# Altium schematic symbol library Belle_library.SchLib: 44 symbols
Pins are listed as number, name and electrical type; pins without a type are passive.

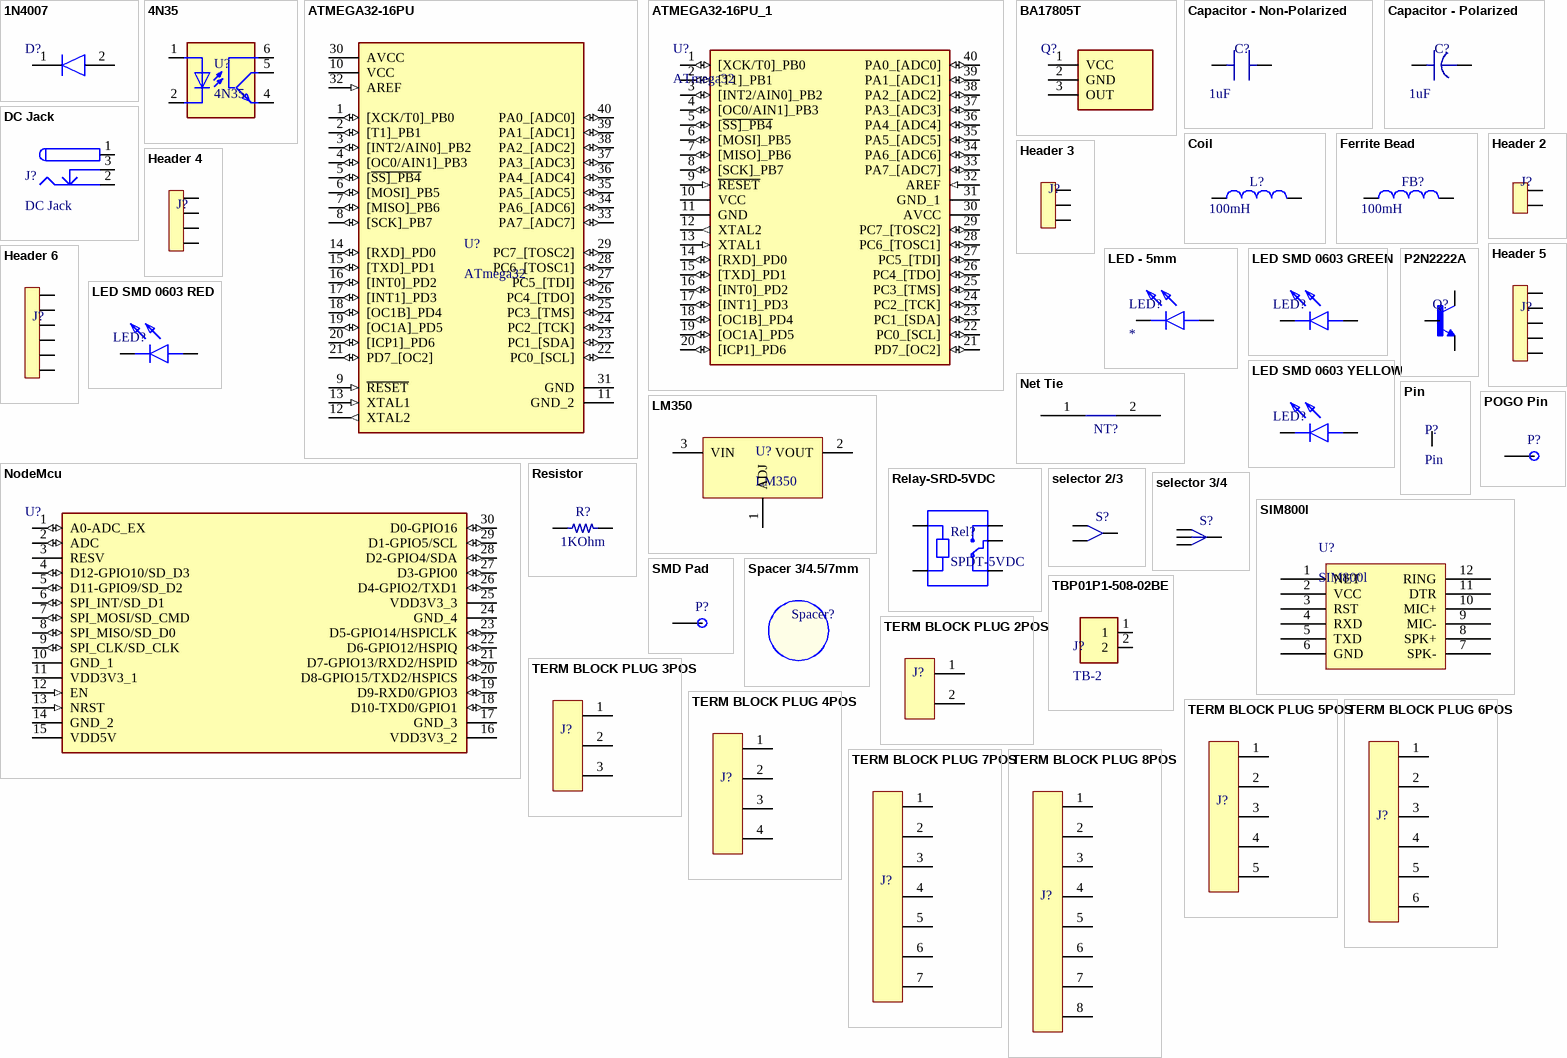
[diagram p0: symbols 1N4007 to TERM BLOCK PLUG 8POS]

## 1N4007
designator D?  (value not drawn)
Diode; Manufacturer_Name: ON Semiconductor; Manufacturer_Part_Number: 1N4007; Datasheet Link: http://www.onsemi.com/pub/Collateral/1N4001-D.PDF; Arrow Part Number: 1N4007; Arrow Price/Stock: https://www.arrow.com/en/products/1n4007/on-semiconductor; Mouser Part Number: 512-1N4007; Mouser Price/Stock: https://www.mouser.co.uk/ProductDetail/ON-Semiconductor-Fairchild/1N4007?qs=ZbYWOjW8mGpDHeErRxax7Q%3D%3D
footprint Diode Generic
pins: 1 K, 2 A

## 4N35
designator U?
4N35 Transistor Output Optocoupler, 1 Channel, 5 kV, 100 %, 60 mA, DIP, 6 Pins; Manufacturer: Everlight; CTR-Min: 100 %; Isolation Voltage-Max: 5000 V; No of Channels: 1; Output Voltage-Max: 80 V; Supplier 1: Digi-Key; Manufacturer Part Number: 4N35; Stock 1: 0; Pricing 1: 1040=0.1568 (USD); Operating Temp-Max: 110 °C; ComponentLink1URL: http://www.everlight.com/file/ProductFile/201407061933068723.pdf?src-supplier=Digi-Key; ComponentLink1Description: http://www.everlight.com/file/ProductFile/201407061933068723.pdf?src-supplier=Digi-Key; ComponentLink2URL: http://www1.futureelectronics.com/doc/EVERLIGHT/4N35.pdf?src-supplier=Future+Electronics; ComponentLink2Description: http://www1.futureelectronics.com/doc/EVERLIGHT/4N35.pdf?src-supplier=Future+Electronics; ComponentLink3URL: http://www.farnell.com/datasheets/808667.pdf?src-supplier=Element14; ComponentLink3Description: http://www.farnell.com/datasheets/808667.pdf?src-supplier=Element14; ComponentLink4URL: http://components.arrow.com/part/dataview/47953746S5594148N2104?src-supplier=Arrow; ComponentLink4Description: http://components.arrow.com/part/dataview/47953746S5594148N2104?src-supplier=Arrow; ComponentLink5URL: http://www.mouser.com/ds/2/143/everlight_201407061933068723-608553.pdf?src-supplier=Mouser; ComponentLink5Description: http://www.mouser.com/ds/2/143/everlight_201407061933068723-608553.pdf?src-supplier=Mouser; Supplier Part Number 1: 4N35EL-ND
footprint DIP6
pins: 1 A, 2 C, 4 EMI, 5 COL, 6 BAS

## ATMEGA32-16PU
designator U?, comment ATmega32
AVR ATmega Microcontroller IC 8-Bit 16MHz 32KB _16K x 16_ FLASH 40-PDIP
footprint DIP254P1524X482-40
footprint DIP1556W56P254L5232H483Q40N
pins: 1 [XCK/T0]_PB0 (io), 2 [T1]_PB1 (io), 3 [INT2/AIN0]_PB2 (io), 4 [OC0/AIN1]_PB3 (io), 5 [~{SS]_PB4} (io), 6 [MOSI]_PB5 (io), 7 [MISO]_PB6 (io), 8 [SCK]_PB7 (io), 9 ~{RESET} (in), 10 VCC (power), 11 GND_2, 12 XTAL2 (out), 13 XTAL1 (in), 14 [RXD]_PD0 (io), 15 [TXD]_PD1 (io), 16 [INT0]_PD2 (io), 17 [INT1]_PD3 (io), 18 [OC1B]_PD4 (io), 19 [OC1A]_PD5 (io), 20 [ICP1]_PD6 (io), 21 PD7_[OC2] (io), 22 PC0_[SCL] (io), 23 PC1_[SDA] (io), 24 PC2_[TCK] (io), 25 PC3_[TMS] (io), 26 PC4_[TDO] (io), 27 PC5_[TDI] (io), 28 PC6_[TOSC1] (io), 29 PC7_[TOSC2] (io), 30 AVCC (power), 31 GND, 32 AREF (in), 33 PA7_[ADC7] (io), 34 PA6_[ADC6] (io), 35 PA5_[ADC5] (io), 36 PA4_[ADC4] (io), 37 PA3_[ADC3] (io), 38 PA2_[ADC2] (io), 39 PA1_[ADC1] (io), 40 PA0_[ADC0] (io)

## ATMEGA32-16PU_1
designator U?, comment ATmega32
AVR ATmega Microcontroller IC 8-Bit 16MHz 32KB _16K x 16_ FLASH 40-PDIP
footprint DIP1556W56P254L5232H483Q40N
pins: 1 [XCK/T0]_PB0 (io), 2 [T1]_PB1 (io), 3 [INT2/AIN0]_PB2 (io), 4 [OC0/AIN1]_PB3 (io), 5 [~{SS]_PB4} (io), 6 [MOSI]_PB5 (io), 7 [MISO]_PB6 (io), 8 [SCK]_PB7 (io), 9 ~{RESET} (in), 10 VCC (power), 11 GND (power), 12 XTAL2 (out), 13 XTAL1 (in), 14 [RXD]_PD0 (io), 15 [TXD]_PD1 (io), 16 [INT0]_PD2 (io), 17 [INT1]_PD3 (io), 18 [OC1B]_PD4 (io), 19 [OC1A]_PD5 (io), 20 [ICP1]_PD6 (io), 21 PD7_[OC2] (io), 22 PC0_[SCL] (io), 23 PC1_[SDA] (io), 24 PC2_[TCK] (io), 25 PC3_[TMS] (io), 26 PC4_[TDO] (io), 27 PC5_[TDI] (io), 28 PC6_[TOSC1] (io), 29 PC7_[TOSC2] (io), 30 AVCC (power), 31 GND_1 (power), 32 AREF (in), 33 PA7_[ADC7] (io), 34 PA6_[ADC6] (io), 35 PA5_[ADC5] (io), 36 PA4_[ADC4] (io), 37 PA3_[ADC3] (io), 38 PA2_[ADC2] (io), 39 PA1_[ADC1] (io), 40 PA0_[ADC0] (io)

## BA17805T
designator Q?
Voltage Regulator
footprint TO254P480X1010X2280-3P
pins: 1 VCC (power), 2 GND (power), 3 OUT (power)

## Capacitor - Non-Polarized
designator C?  value 1uF
Generic Non-Polarized Capacitor
footprint Capacitor - TH - 5mm -1 (Through-Hole Cirular Capacitor - 5mm)
footprint Capacitor - TH - 5mm - 2 (Through-Hole Oval Capacitor - 5mm)
footprint Capacitor - TH - 10mm -1 (Through-Hole Cirular Capacitor - 10mm)
footprint Capacitor - TH - 10mm - 2 (Through-Hole Oval Capacitor - 10mm)
footprint Capacitor - SMD - 0805 (SMD capacitor - 0805)
pins: 1, 2

## Capacitor - Polarized
designator C?  value 1uF
Generic Polarized Capacitor
footprint Capacitor - TH - 5mm -1 (Through-Hole Cirular Capacitor - 5mm)
footprint Capacitor - TH - 5mm - 2 (Through-Hole Oval Capacitor - 5mm)
footprint Capacitor - TH - 10mm -1 (Through-Hole Cirular Capacitor - 10mm)
footprint Capacitor - TH - 10mm - 2 (Through-Hole Oval Capacitor - 10mm)
footprint Capacitor - SMD - 0805 - pol (SMD capacitor - 0805)
pins: 1, 2

## Coil
designator L?  value 100mH
Generic Coil
footprint Coil - TH - 10mm (Through-hole coild 10mm/0.8mm)
footprint Coil - TH - 12mm (Through-hole coil 12mm/0.8mm)
footprint Coil - SMD - 0805 (SMD coil - 0805)
pins: 1, 2

## DC Jack
designator J?
footprint DC Jack - KLDHCX
pins: 1 (power), 2 (power), 3 (power)

## Ferrite Bead
designator FB?  value 100mH
Generic Ferrite Bead
footprint Coil - TH - 10mm (Through-hole coild 10mm/0.8mm)
footprint Coil - TH - 12mm (Through-hole coil 12mm/0.8mm)
footprint Coil - SMD - 0805 (SMD coil - 0805)
pins: 1, 2

## Header 2
designator J?  (value not drawn)
Header - 2 pins
footprint Header Male 2 - 2.54 (header - 2 pin - pitch 2.54mm)
footprint Header Female 2 - 2.54 (header - 2 pin - pitch 2.54mm)
pins: 1, 2

## Header 3
designator J?  (value not drawn)
Header - 3 pins
footprint Header Male 3 - 2.54 (header - 3 pin - pitch 2.54mm)
footprint Header Female 3 - 2.54 (header - 3 pin - pitch 2.54mm)
pins: 1, 2, 3

## Header 4
designator J?  (value not drawn)
Header - 4 pins
footprint Header Male 4 - 2.54 (header - 4 pin - pitch 2.54mm)
footprint Header Female 4 - 2.54 (header - 4 pin - pitch 2.54mm)
pins: 1, 2, 3, 4

## Header 5
designator J?  (value not drawn)
Header - 5 pins
footprint Header Male 5 - 2.54 (header - 5 pin - pitch 2.54mm)
footprint Header Female 5 - 2.54 (header - 5 pin - pitch 2.54mm)
pins: 1, 2, 3, 4, 5

## Header 6
designator J?  (value not drawn)
Header - 6 pins
footprint Header Male 6 - 2.54 (Footprint not found)
footprint Header Female 6 - 2.54 (Footprint not found)
pins: 1, 2, 3, 4, 5, 6

## LED - 5mm
designator LED?
LED; Manufacturer_Name: Kingbright; Manufacturer_Part_Number: L-53GD; Datasheet Link: http://docs-emea.rs-online.com/webdocs/151e/0900766b8151e408.pdf; Arrow Part Number: L-53GD; Arrow Price/Stock: https://www.arrow.com/en/products/l-53gd/kingbright; Mouser Part Number: N/A; Mouser Price/Stock: https://www.mouser.co.uk/ProductDetail/Kingbright/L-53GD?qs=2JU0tDl2GZ2KA1NEp%252B9cyQ%3D%3D
footprint LED - 5mm
pins: 1 A, 2 K

## LED SMD 0603 GREEN
designator LED?, comment LED SMD  (value not drawn)
LED SMD 0603 GREEN; Manufacturer: Osram Opto; Manufacturer Part Number: LGL29K-F2J1-24-Z; Categories: Optoelectronics; Configuration: Standard; Lens Color: White; Lens Transparency: Diffused; Millicandela Rating: 3.5mcd; Lens Style: Rectangle with Flat Top; Lens Size: 1.30mm x 0.80mm; Voltage - Forward (Vf) (Typ): 1.7V; Current - Test: 2mA; Viewing Angle: 160°; Wavelength - Dominant: 570nm; Wavelength - Peak: 572nm; Supplier 1: Digi-Key; Stock 1: 30460; Pricing 1: 1=0.41, 10=0.287, 100=0.1674, 500=0.1148, 1000=0.0956, 2500=0.0861 (USD); Series: SmartLED; Packaging: Digi-Reel®; Part Status: Active; Color: Green; Mounting Type: Surface Mount; Features: -; Package / Case: 0603 (1608 Metric); Supplier Device Package: 0603; Size / Dimension: 1.70mm L x 0.80mm W; Height (Max): 0.65mm; ComponentLink1URL: http://catalog.osram-os.com/catalogue/catalogue.do;jsessionid=3DE84243E85F820603DAFD5199D8DDA3?act=downloadFile&favOid=020000020000138e000100b6&src-supplier=Avnet; ComponentLink1Description: http://catalog.osram-os.com/catalogue/catalogue.do;jsessionid=3DE84243E85F820603DAFD5199D8DDA3?act=downloadFile&favOid=020000020000138e000100b6&src-supplier=Avnet; ComponentLink2URL: http://components.arrow.com/part/dataview/41971649S9781339N2128?src-supplier=Arrow; ComponentLink2Description: http://components.arrow.com/part/dataview/41971649S9781339N2128?src-supplier=Arrow; ComponentLink3URL: http://components.arrow.com/part/dataview/0323_02006818?src-supplier=Arrow+Europe; ComponentLink3Description: http://components.arrow.com/part/dataview/0323_02006818?src-supplier=Arrow+Europe; ComponentLink4URL: https://dammedia.osram.info/media/resource/hires/osram-dam-2493945/LG%20L29K.pdf?src-supplier=Digi-Key; ComponentLink4Description: https://dammedia.osram.info/media/resource/hires/osram-dam-2493945/LG%20L29K.pdf?src-supplier=Digi-Key; ComponentLink5URL: http://catalog.osram-os.com/catalogue/catalogue.do;jsessionid=3DE84243E85F820603DAFD5199D8DDA3?act=downloadFile&favOid=020000020000138e000100b6&src-supplier=Avnet+Europe; ComponentLink5Description: http://catalog.osram-os.com/catalogue/catalogue.do;jsessionid=3DE84243E85F820603DAFD5199D8DDA3?act=downloadFile&favOid=020000020000138e000100b6&src-supplier=Avnet+Europe; Supplier Part Number 1: 475-3118-1-ND
footprint LED0603
pins: 1 K, 2 A

## LED SMD 0603 RED
designator LED?, comment LED SMD  (value not drawn)
LED SMD 0603 RED; Manufacturer: Osram Opto; Manufacturer Part Number: LSL29K-G1J2-1-Z; Categories: Optoelectronics; Configuration: Standard; Lens Color: White; Lens Transparency: Diffused; Millicandela Rating: 4.5mcd; Lens Style: Rectangle with Flat Top; Lens Size: 1.30mm x 0.80mm; Voltage - Forward (Vf) (Typ): 1.8V; Current - Test: 2mA; Viewing Angle: 160°; Wavelength - Dominant: 630nm; Wavelength - Peak: 643nm; Supplier 1: Digi-Key; Stock 1: 44056; Pricing 1: 1=0.41, 10=0.287, 100=0.1674, 500=0.1148, 1000=0.0956, 2500=0.0861 (USD); Series: SmartLED; Packaging: Digi-Reel®; Part Status: Active; Color: Red; Mounting Type: Surface Mount; Features: -; Package / Case: 0603 (1608 Metric); Supplier Device Package: 0603; Size / Dimension: 1.70mm L x 0.80mm W; Height (Max): 0.65mm; ComponentLink1URL: https://dammedia.osram.info/media/resource/hires/osram-dam-2493517/LS%20L29K.pdf?src-supplier=Digi-Key; ComponentLink1Description: https://dammedia.osram.info/media/resource/hires/osram-dam-2493517/LS%20L29K.pdf?src-supplier=Digi-Key; Supplier Part Number 1: 475-2506-1-ND
footprint LED0603
pins: 1 K, 2 A

## LED SMD 0603 YELLOW
designator LED?, comment LED SMD  (value not drawn)
LED SMD 0603 YELLOW; Manufacturer: Osram Opto; Manufacturer Part Number: LY L29K-J1K2-26-Z; Categories: Optoelectronics; Configuration: Standard; Lens Color: White; Lens Transparency: Diffused; Millicandela Rating: 7.85mcd; Lens Style: Rectangle with Flat Top; Lens Size: 1.30mm x 0.80mm; Voltage - Forward (Vf) (Typ): 1.8V; Current - Test: 2mA; Viewing Angle: 160°; Wavelength - Dominant: 587nm; Wavelength - Peak: 591nm; Supplier 1: Digi-Key; Stock 1: 0; Series: SmartLED; Packaging: Digi-Reel®; Part Status: Active; Color: Yellow; Mounting Type: Surface Mount; Features: -; Package / Case: 0603 (1608 Metric); Supplier Device Package: 0603; Size / Dimension: 1.70mm L x 0.80mm W; Height (Max): 0.65mm; ComponentLink1URL: https://dammedia.osram.info/media/resource/hires/osram-dam-2492957/LY%20L29K.pdf?src-supplier=Digi-Key; ComponentLink1Description: https://dammedia.osram.info/media/resource/hires/osram-dam-2492957/LY%20L29K.pdf?src-supplier=Digi-Key; ComponentLink2URL: https://www.verical.com/server-webapp/html/getDatasheet?partID=572490&src-supplier=Verical; ComponentLink2Description: https://www.verical.com/server-webapp/html/getDatasheet?partID=572490&src-supplier=Verical; ComponentLink3URL: http://datasheet.octopart.com/LY-L29K-J1K2-26-Z-Osram-datasheet-11547524.pdf?src-supplier=Arrow; ComponentLink3Description: http://datasheet.octopart.com/LY-L29K-J1K2-26-Z-Osram-datasheet-11547524.pdf?src-supplier=Arrow; Supplier Part Number 1: 475-2794-1-ND
footprint LED0603
pins: 1 K, 2 A

## LM350
designator U?
Voltage Regulator; Manufacturer: TI National Semiconductor; Manufacturer Part Number: LM350AT/NOPB; Output Voltage: 1.2V to 33V; Maximum Output Current: 3A; Maximum Power Dissipation: 25000mW; Number of Outputs: 1; Reference Voltage: 1.262V; Junction to Ambient: 50C/W(Typ); Junction to Case: 4C/W; Screening Level: Extended; Pin_Count: 3; Product Width: 4.7mm(Max); Polarity: Positive; Product Height: 8.89mm(Max); Product Length: 10.16mm; Output Type: Adjustable; Accuracy: 1%; Function: Standard; Line Regulation: 0.01%/V; Load Regulation: 0.3%; Supplier 1: Digi-Key; Stock 1: 2711; Pricing 1: 1=3.1, 10=2.785, 25=2.6324, 100=2.1645, 250=1.9422, 500=1.872, 1000=1.5561, 2500=1.4976, 5000=1.4508 (USD); Family: LM350A; Type: Linear; Minimum Operating Temperature: -40C; Maximum Operating Temperature: 125C; Mounting: Through Hole; Packaging: Rail; Supplier_Package: TO-220; Product Type: Linear Regulator; ComponentLink1URL: http://www.ti.com/lit/gpn/lm350a?src-supplier=Mouser; ComponentLink1Description: http://www.ti.com/lit/gpn/lm350a?src-supplier=Mouser; ComponentLink2URL: http://www.ti.com/general/docs/lit/getliterature.tsp?genericPartNumber=LM350A&&fileType=pdf&src-supplier=Avnet; ComponentLink2Description: http://www.ti.com/general/docs/lit/getliterature.tsp?genericPartNumber=LM350A&&fileType=pdf&src-supplier=Avnet; ComponentLink3URL: http://www.jameco.com/Jameco/Products/ProdDS/838946.pdf?src-supplier=Jameco; ComponentLink3Description: http://www.jameco.com/Jameco/Products/ProdDS/838946.pdf?src-supplier=Jameco; ComponentLink4URL: http://www.produktinfo.conrad.com/datenblaetter/1000000-1099999/001014081-da-01-en-IC_REG_LDO_ADJ_LM350AT_NOPB_TO_220_3_TID.pdf?src-supplier=Conrad; ComponentLink4Description: http://www.produktinfo.conrad.com/datenblaetter/1000000-1099999/001014081-da-01-en-IC_REG_LDO_ADJ_LM350AT_NOPB_TO_220_3_TID.pdf?src-supplier=Conrad; Supplier Part Number 1: LM350AT/NOPB-ND
footprint TO254P1054X470X1955-3
footprint TO254P1054X470X1955-3
pins: 1 ADJ (power), 2 VOUT, 3 VIN (power)

## Net Tie
designator NT?  (value not drawn)  (net tie, no BOM)
pins: 1, 2

## NodeMcu
designator U?
ESP32 NodeMCU
footprint DIP2286W64P254L4826H735Q30N
pins: 1 A0-ADC_EX (io), 2 ADC (io), 3 RESV, 4 D12-GPIO10/SD_D3 (io), 5 D11-GPIO9/SD_D2 (io), 6 SPI_INT/SD_D1 (io), 7 SPI_MOSI/SD_CMD (io), 8 SPI_MISO/SD_D0 (io), 9 SPI_CLK/SD_CLK (io), 10 GND_1 (power), 11 VDD3V3_1 (power), 12 EN (in), 13 NRST (in), 14 GND_2, 15 VDD5V (power), 16 VDD3V3_2 (power), 17 GND_3, 18 D10-TXD0/GPIO1 (io), 19 D9-RXD0/GPIO3 (io), 20 D8-GPIO15/TXD2/HSPICS (io), 21 D7-GPIO13/RXD2/HSPID (io), 22 D6-GPIO12/HSPIQ (io), 23 D5-GPIO14/HSPICLK (io), 24 GND_4, 25 VDD3V3_3 (power), 26 D4-GPIO2/TXD1 (io), 27 D3-GPIO0 (io), 28 D2-GPIO4/SDA (io), 29 D1-GPIO5/SCL (io), 30 D0-GPIO16 (io)

## P2N2222A
designator Q?  (value not drawn)
Transitor - BJT - NPN 40V 600mA 300 MHz 625mW - TO-92-3
footprint TO92
pins: 1 E, 2 B, 3 C

## Pin
designator P?
Single Pin
footprint Pin - TH 0.8mm (Through-hole pin - 0.8mm)
footprint Pin - TH 1mm (Through-hole pin - 1mm)
footprint Pin - TH 1.2mm (Through-hole pin - 1.2mm)
footprint Pin - TH 1.5mm (Through-hole pin - 1.5mm)
pins: 1

## POGO Pin
designator P?, comment POGO  (value not drawn)
POGO Pin
footprint Model Name (Model Description)
footprint POGO - D0.6/1.1 - P70-6000045R
footprint POGO - D0.81/1.68 - 7911-0-15-20-86-14-11-0
footprint POGO - D1.07/1.83 - 0914-2-15-20-77-14-11-0
footprint POGO - D1.27/3.18 - 0853-0-15-20-82-14-11-0
pins: 1 P

## Relay-SRD-5VDC
designator Rel?, comment SPDT-5VDC
Relay
footprint SRD-5VDC
pins: A1, A2, COM, NC, NO

## Resistor
designator R?  value 1KOhm
Generic Resistor
footprint Resistor - TH - 10mm (Through-hole resistor 10mm/0.8mm)
footprint Resistor - TH - 12mm (Through-hole resistor 12mm/0.8mm)
footprint Resistor - SMD - 0805 (SMD resistor - 0805)
pins: 1, 2

## selector 2/3
designator S?  (value not drawn)
selector - 2 inputs/1 output
footprint selector - TH - 2/3 (selector - 2 inputs/1 output - through-hole)
pins: 1, 2, 3

## selector 3/4
designator S?  (value not drawn)
selector - 3 inputs/1 output
footprint selector - TH - 3/4 (selector - 3 inputs/1 output - through-hole)
pins: 1, 2, 3, 4

## SIM800l
designator U?
SIM800
footprint SIM800l
pins: 1 NET, 2 VCC, 3 RST, 4 RXD, 5 TXD, 6 GND, 7 SPK-, 8 SPK+, 9 MIC-, 10 MIC+, 11 DTR, 12 RING

## SMD Pad
designator P?  (value not drawn)
SMD Pad
footprint Pad SMD Round - 1mm
pins: 1 P

## Spacer 3/4.5/7mm
designator Spacer?, comment Spacer 7mm  (value not drawn)
Spacer 7mm height, Diameter 3/4.5mm, Hex
footprint Spacer - 3/4.5/7mm - Hex -FF

## TBP01P1-508-02BE
designator J?, comment TB-2
Terminal Block - 2 Positions; Manufacturer: CUI; Manufacturer Part Number: TBP01P1-508-02BE; Supplier 1: Digi-Key; Stock 1: 277; Pricing 1: 1=0.77, 10=0.48, 25=0.4112, 50=0.3696, 100=0.3619, 250=0.308, 500=0.2926, 1000=0.2618, 5000=0.2048 (USD); Supplier Part Number 1: 102-6390-ND
footprint Terminal Block - 2
pins: 1, 2

## TERM BLOCK PLUG 2POS
designator J?  (value not drawn)
2 Position Terminal Block Plug, Female Sockets 180° Free Hanging (In-Line)
footprint Terminal Block,2 Pos, 3.5mm
footprint Terminal Block,2 Pos, 4mm
pins: 1, 2

## TERM BLOCK PLUG 3POS
designator J?  (value not drawn)
3 Position Terminal Block Plug, Female Sockets 180° Free Hanging (In-Line)
footprint Terminal Block,3 Pos, 3.5mm
pins: 1, 2, 3

## TERM BLOCK PLUG 4POS
designator J?  (value not drawn)
4 Position Terminal Block Plug, Female Sockets 180° Free Hanging (In-Line)
footprint Terminal Block,4 Pos, 3.5mm
pins: 1, 2, 3, 4

## TERM BLOCK PLUG 5POS
designator J?  (value not drawn)
5 Position Terminal Block Plug, Female Sockets 180° Free Hanging (In-Line)
footprint Terminal Block,5 Pos, 3.5mm
pins: 1, 2, 3, 4, 5

## TERM BLOCK PLUG 6POS
designator J?  (value not drawn)
6 Position Terminal Block Plug, Female Sockets 180° Free Hanging (In-Line)
footprint Terminal Block,6 Pos, 3.5mm
pins: 1, 2, 3, 4, 5, 6

## TERM BLOCK PLUG 7POS
designator J?  (value not drawn)
7 Position Terminal Block Plug, Female Sockets 180° Free Hanging (In-Line)
footprint Terminal Block,7 Pos, 3.5mm
pins: 1, 2, 3, 4, 5, 6, 7

## TERM BLOCK PLUG 8POS
designator J?  (value not drawn)
8 Position Terminal Block Plug, Female Sockets 180° Free Hanging (In-Line)
footprint Terminal Block,8 Pos, 3.5mm
pins: 1, 2, 3, 4, 5, 6, 7, 8

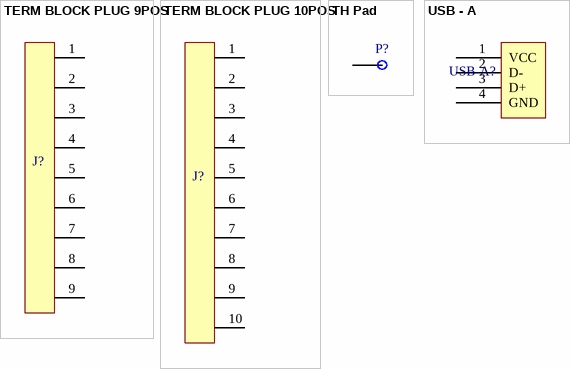
[diagram p1: symbols TERM BLOCK PLUG 9POS to USB - A]

## TERM BLOCK PLUG 9POS
designator J?  (value not drawn)
9 Position Terminal Block Plug, Female Sockets 180° Free Hanging (In-Line)
footprint Terminal Block,9 Pos, 3.5mm
pins: 1, 2, 3, 4, 5, 6, 7, 8, 9

## TERM BLOCK PLUG 10POS
designator J?  (value not drawn)
10 Position Terminal Block Plug, Female Sockets 180° Free Hanging (In-Line)
footprint Terminal Block,10 Pos, 3.5mm
pins: 1, 2, 3, 4, 5, 6, 7, 8, 9, 10

## TH Pad
designator P?  (value not drawn)
TH Pad
footprint TH Pad - 2mm
footprint Model Name (Model Description)
pins: 1 P

## USB - A
designator USB-A?  (value not drawn)
USB - A
pins: 1 VCC, 2 D-, 3 D+, 4 GND